# Altium footprint library Seeed-OPL-Connector.PCBLIB: 183 footprints (part 11 of 12)
Each footprint in its own frame and in the unit in brackets; x right, y up, seen from the top. Pads: shape width x height; smd on the part's side, far side on the other; paste and mask are expansions set on the pad; w line width, h text height; cw(c..) or ccw(c..) is an arc to the next point about the centre after c.
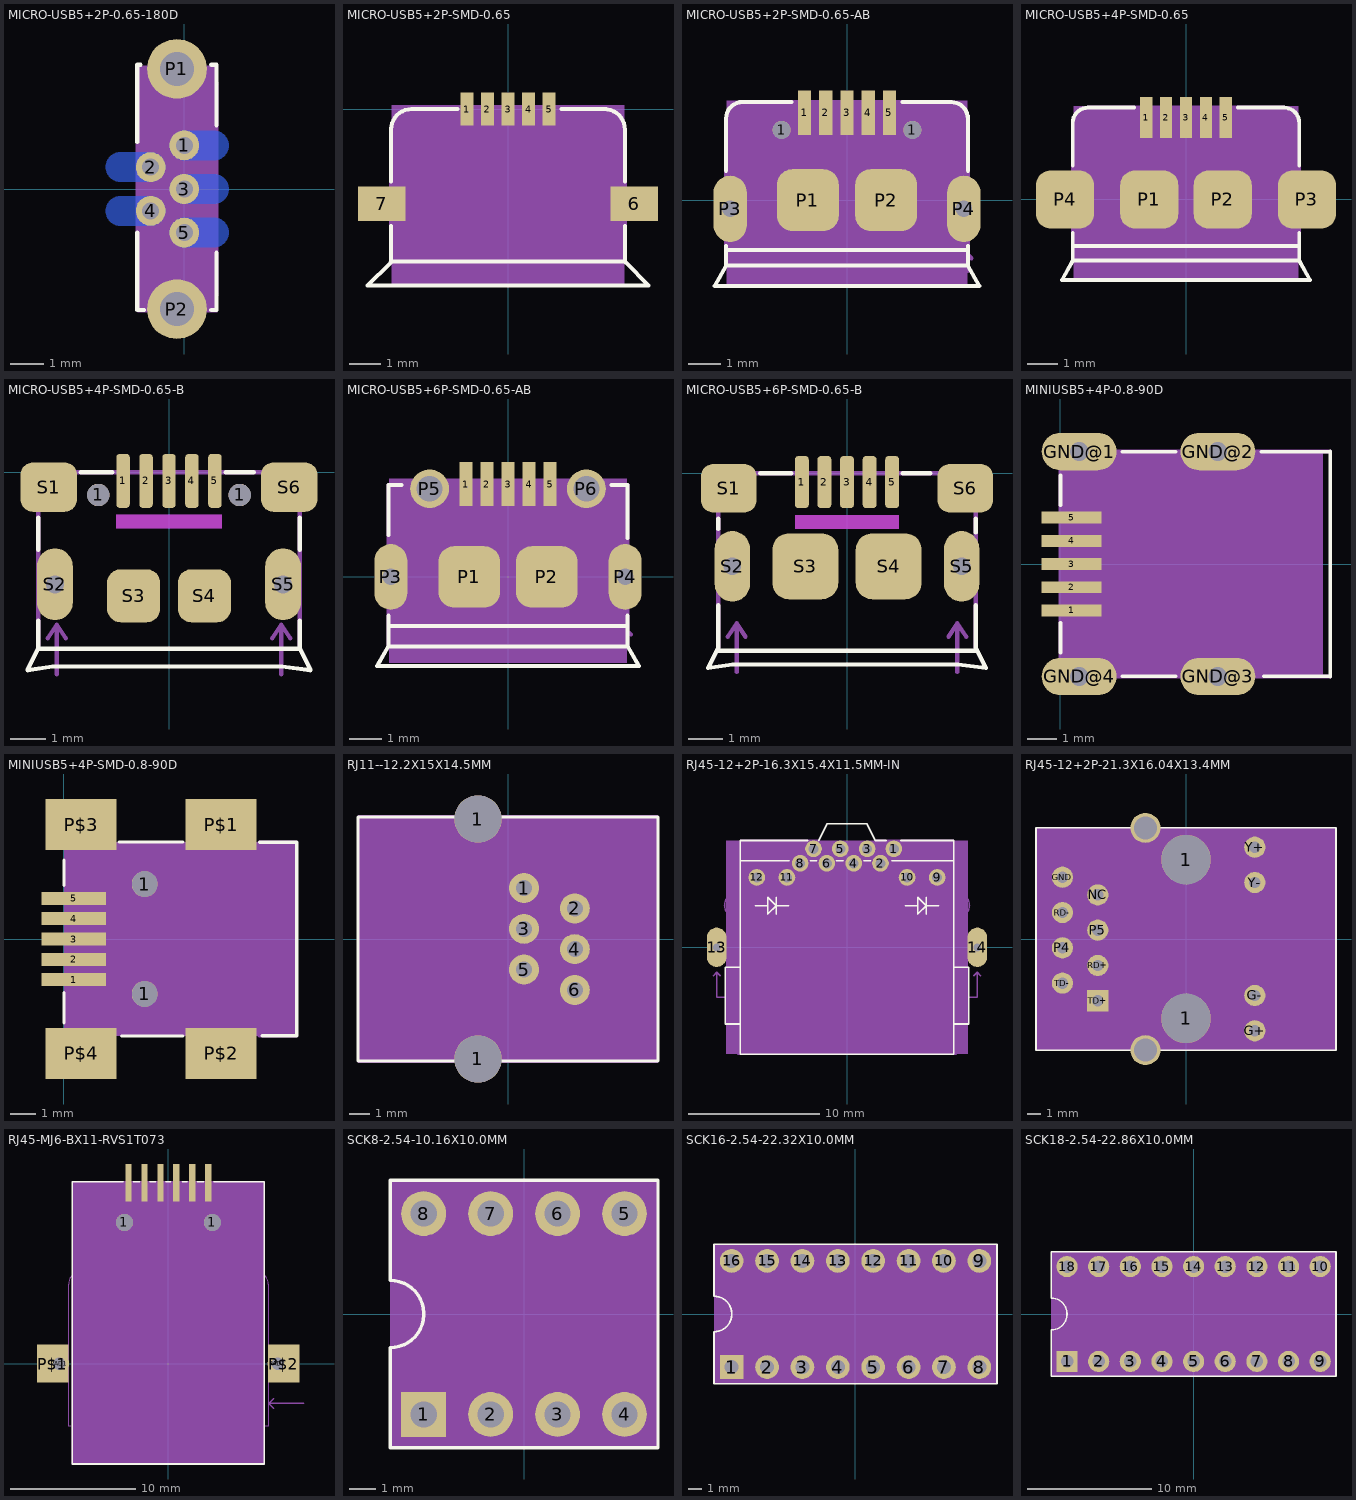
[diagram p10: the footprints below, top view; thin cyan lines are the x and y axes]

## MICRO-USB5+2P-0.65-180D [mil]
pads (7):
  round 35 hole 20: 1(0,51.18) 2(-39.37,25.59) 3(0,0) 4(-39.37,-25.59) 5(0,-51.18)
  round 70 hole 40: P1(-8.66,140.75) P2(-8.66,-140.75)
Bottom Layer:
  lines w35: -75,-25.59 -39.37,-25.59 ; -75,25.59 -39.37,25.59 ; 0,-51.18 35,-51.18 ; 0,0 35,0 ; 0,51.18 35,51.18
Top Overlay:
  lines w5: -55.12,-51.18 -55.12,-141.73 -47.24,-141.73 ; -55.12,55.12 -55.12,145.67 -51.18,145.67 ; 31.5,-141.73 37.8,-141.73 37.8,-122.05 37.8,-118.11 37.8,-74.8 ; 31.5,145.67 37.8,145.67 37.8,74.8
Bottom Paste:
  lines w35: -75,-25.59 -39.37,-25.59 ; -75,25.59 -39.37,25.59 ; 0,-51.18 35,-51.18 ; 0,0 35,0 ; 0,51.18 35,51.18
Bottom Solder:
  lines w43: -75,-25.59 -39.37,-25.59 ; -75,25.59 -39.37,25.59 ; 0,-51.18 35,-51.18 ; 0,0 35,0 ; 0,51.18 35,51.18
Mechanical 16:
  lines w5: -54.92,-119.69 ccw(c-29.92,-119.69) -29.92,-144.69 12.6,-144.69 ccw(c12.6,-119.69) 37.6,-119.69 37.6,119.69 ccw(c12.6,119.69) 12.6,144.69 -29.92,144.69 ccw(c-29.92,119.69) -54.92,119.69 -54.92,-119.69
Mechanical 27:
  rectangle: -54.92,-144.69 39.17,144.69

## MICRO-USB5+2P-SMD-0.65 [mm]
pads (7):
  rect 0.4x1.05 smd: 1(-1.3,0) 2(-0.65,0) 3(0,0) 4(0.65,0) 5(1.3,0)
  rect 1.5x1.1 smd: 6(4,-3) 7(-4,-3)
Top Overlay:
  lines w0.127: -3.708,-4.82 3.696,-4.82 ; -3.702,-4.705 -3.702,-4.839 -3.727,-4.87 -4.445,-5.588 4.445,-5.588 ; -3.7,-4.8 -3.7,-3.7 ; -3.7,-2.3 -3.7,-0.6 ; -3.7,-0.645 cw(c-3.055,-0.645) -3.055,0 ; -3,0 -1.6,0 ; 1.7,0 3.1,0 ; 3.051,0 cw(c3.051,-0.649) 3.7,-0.649 ; 3.7,-4.8 3.7,-3.7 ; 3.7,-2.3 3.7,-0.7 ; 3.702,-4.743 3.702,-4.826 3.727,-4.858 ; 3.734,-4.864 4.451,-5.582
Mechanical 16:
  lines w0.127: -3.7,-4.746 -3.7,-0.645 ; -3.055,0 3.051,0 ; 3.7,-4.746 3.7,-0.649
Mechanical 27:
  rectangle: -3.683,-5.588 3.683,0.127

## MICRO-USB5+2P-SMD-0.65-AB [mm]
pads (11):
  round 0.55 hole 0.55: 1(-2,2.15) 1(2,2.15)
  rect 0.4x1.35 smd: 1(-1.3,2.675) 2(-0.65,2.675) 3(0,2.675) 4(0.65,2.675) 5(1.3,2.675)
  rrect50% 1.9x1.9 smd: P1(-1.2,0) P2(1.2,0)
  oval 1.016x2.032 hole 0.508: P3(-3.575,-0.265) P4(3.575,-0.265)
Top Overlay:
  lines w0.127: -3.7,-1.4 -3.7,-2 ; -3.7,0.9 -3.7,2.5 cw(c-3.2,2.5) -3.2,3 ; -3.683,-1.524 3.683,-1.524 ; -3.3,3 -1.7,3 ; 1.7,3 3.2,3 cw(c3.2,2.5) 3.7,2.5 3.7,0.9 ; 3.7,-1.4 3.7,-2 ; -3.7,-2 -4.05,-2.63 4.05,-2.63 3.7,-2 ; -3.7,-2 3.7,-2
Mechanical 11:
  lines w0.127: -3.683,-1.778 -3.556,-1.651 ; -3.429,-1.778 -3.556,-1.651 ; 3.556,-1.778 3.683,-1.651 ; 3.81,-1.778 3.683,-1.651 ; -3.556,-1.651 -3.556,-2.159 3.683,-2.159 3.683,-1.651
  lines w0.508: -3.575,-0.646 -3.575,0.116 ; 3.575,-0.646 3.575,0.116
  text "slot drills with copper" at -3.556,-2.794 h0.63
Mechanical 16:
  lines w0.127: -3.7,-2 -3.7,2.5 ; -3.2,3 3.2,3 ; 3.7,-2 3.7,2.5
Mechanical 27:
  rectangle: -3.683,-2.667 3.683,3.048

## MICRO-USB5+4P-SMD-0.65 [mm]
pads (9):
  rect 0.4x1.35 smd: 1(-1.3,2.675) 2(-0.65,2.675) 3(0,2.675) 4(0.65,2.675) 5(1.3,2.675)
  rrect50% 1.9x1.9 smd: P1(-1.2,0) P2(1.2,0) P3(3.95,0) P4(-3.95,0)
Top Overlay:
  lines w0.127: -3.7,-1.1 -3.7,-2 ; -3.7,1.1 -3.7,2.5 cw(c-3.2,2.5) -3.2,3 -1.7,3 ; -3.683,-1.524 3.683,-1.524 ; 1.7,3 3.2,3 cw(c3.2,2.5) 3.7,2.5 3.7,1.1 ; 3.7,-1.1 3.7,-2 ; -3.7,-2 -4.05,-2.63 4.05,-2.63 3.7,-2 ; -3.7,-2 3.7,-2
Mechanical 16:
  lines w0.127: -3.7,-2 -3.7,2.5 ; -3.2,3 3.2,3 ; 3.7,-2 3.7,2.5
Mechanical 27:
  rectangle: -3.683,-2.667 3.683,3.048

## MICRO-USB5+4P-SMD-0.65-B [mil]
pads (13):
  round 25 hole 25: 1(-78.74,-25.59) 1(78.74,-25.59)
  rrect50% 15x60 smd: 1(-51.18,-9.84) 2(-25.59,-9.84) 3(0,-9.84) 4(25.59,-9.84) 5(51.18,-9.84)
  rrect50% 62.99x55 smd: S1(-133.86,-16.81) S6(133.86,-16.81)
  oval 40x80 hole 20: S2(-127,-125) S5(127,-125)
  rrect50% 59.06x59.06 smd: S3(-39.37,-137.8) S4(39.37,-137.8)
Top Overlay:
  lines w5: -145.67,-165.35 -145.67,-196.85 ; -145.67,-86.61 -145.67,-51.18 ; -98.43,0 -62.99,0 ; 62.99,0 94.49,0 ; 145.67,-165.35 145.67,-196.85 ; 145.67,-86.61 145.67,-51.18 ; -145.67,-196.85 -157.48,-220.47 -129.92,-216.54 125.98,-216.54 157.48,-220.47 145.67,-196.85 ; -145.67,-196.85 145.67,-196.85
Top Paste:
  region: 0,0 10,0 10,10 0,10
  region: 0,0 10,0 10,10 0,10
Mechanical 8 keep-out:
  rectangle: -59.06,-62.99 59.06,-47.24
Mechanical 11:
  lines w5: -135,-185 -125,-170 ; -125,-225 -125,-170 ; -115,-185 -125,-170 ; 115,-185 125,-170 ; 125,-225 125,-170 ; 135,-185 125,-170
  lines w20: -127,-140 -127,-110 ; 127,-140 127,-110
  text "2 slot drills with copper" at -250,-250 h38.75
Mechanical 16:
  lines w5: -145.67,-196.85 -145.67,0 145.67,0 145.67,-196.85

## MICRO-USB5+6P-SMD-0.65-AB [mm]
pads (11):
  rect 0.4x1.35 smd: 1(-1.3,2.875) 2(-0.65,2.875) 3(0,2.875) 4(0.65,2.875) 5(1.3,2.875)
  rrect50% 1.9x1.9 smd: P1(-1.2,0) P2(1.2,0)
  oval 1.016x2.032 hole 0.508: P3(-3.625,0) P4(3.625,0)
  round 1.2 hole 0.8: P5(-2.425,2.73) P6(2.425,2.73)
Top Overlay:
  lines w0.127: -3.7,-2.1 -3.7,-1.2 ; -3.7,1.3 -3.7,2.85 -3.3,2.85 ; -3.683,-1.524 3.683,-1.524 ; 3.2,2.85 3.7,2.85 3.7,1.2 ; 3.7,-2.1 3.7,-1.2 ; -4.05,-2.75 4.05,-2.75 3.7,-2.15 -3.7,-2.15 -4.05,-2.75
Mechanical 11:
  lines w0.127: -3.683,-1.778 -3.556,-1.651 ; -3.429,-1.778 -3.556,-1.651 ; 3.556,-1.778 3.683,-1.651 ; 3.81,-1.778 3.683,-1.651 ; -3.556,-1.651 -3.556,-2.159 3.683,-2.159 3.683,-1.651
  lines w0.508: -3.625,-0.392 -3.625,0.37 ; 3.625,-0.392 3.625,0.37
  text "slot drills with copper" at -3.556,-2.794 h0.63
Mechanical 16:
  lines w0.127: -3.7,-2.15 -3.7,2.85 3.7,2.85 3.7,-2.15
Mechanical 27:
  rectangle: -3.683,-2.667 3.683,3.048

## MICRO-USB5+6P-SMD-0.65-B [mil]
pads (11):
  rrect50% 15.75x59.06 smd: 1(-51.18,-9.84) 2(-25.59,-9.84) 3(0,-9.84) 4(25.59,-9.84) 5(51.18,-9.84)
  rrect50% 62.99x55.12 smd: S1(-133.86,-16.81) S6(133.86,-16.81)
  oval 40x80 hole 20: S2(-129.92,-105.32) S5(129.92,-105.32)
  rrect50% 74.8x74.8 smd: S3(-47.24,-105.32) S4(47.24,-105.32)
Top Overlay:
  lines w5: -145.67,-200.79 145.67,-200.79 ; -145.67,-149.61 -145.67,-196.85 -157.48,-220.47 -129.92,-216.54 125.98,-216.54 157.48,-220.47 145.67,-196.85 145.67,-149.61 ; -145.67,-62.99 -145.67,-51.18 ; -98.43,0 -62.99,0 ; 62.99,0 94.49,0 ; 145.67,-66.93 145.67,-51.18
Mechanical 8 keep-out:
  rectangle: -59.06,-62.99 59.06,-47.24
Mechanical 11:
  lines w5: -135,-185 -125,-170 ; -125,-225 -125,-170 ; -115,-185 -125,-170 ; 115,-185 125,-170 ; 125,-225 125,-170 ; 135,-185 125,-170
  lines w20: -129.92,-125 -129.92,-95 ; 129.92,-125 129.92,-95
  text "2 slot drills with copper" at -150,-250 h24.8
Mechanical 16:
  lines w5: -145.67,-196.85 -145.67,0 145.67,0 145.67,-196.85

## MINIUSB5+4P-0.8-90D [mil]
pads (9):
  rect 80x16 smd: 1(15,-62) 2(15,-31) 3(15,0) 4(15,31) 5(15,62)
  oval 100x50 hole 25: GND@1(25,150) GND@2(210,150) GND@3(210,-150) GND@4(25,-150)
Top Overlay:
  lines w5: 0,-118.11 0,-78.74 ; 0,78.74 0,118.11 ; 82.68,-149.61 153.54,-149.61 ; 82.68,149.61 153.54,149.61 ; 267.72,149.61 358.27,149.61 ; 271.65,-149.61 358.27,-149.61 ; 360,-150 360,150
Mechanical 11:
  region: 0,0 10,0 10,10 0,10
  region: 0,0 10,0 10,10 0,10
  region: 0,0 10,0 10,10 0,10
  region: 0,0 10,0 10,10 0,10
  lines w5: 62.5,-112.5 125,-25 175,-112.5 ; 62.5,112.5 125,25 175,112.5
  text "4 Slot drills with copper" at 75,-12.5 h38.75
Mechanical 16:
  lines w5: 360,-150 0,-150 0,150 360,150
Mechanical 27:
  rectangle: 0,-150 350,150

## MINIUSB5+4P-SMD-0.8-90D [mil]
pads (11):
  rect 100x20 smd: 1(15,-62.99) 2(15,-31.5) 3(15,0) 4(15,31.5) 5(15,62.99)
  round 40 hole 40: 1(125,-85) 1(125,85)
  rect 110x78.74 smd: P$1(243.11,177.17) P$2(243.11,-177.17) P$3(26.57,177.17) P$4(26.57,-177.17)
Top Overlay:
  lines w5: 0,-129.92 0,-82.68 ; 0,82.68 0,122.05 ; 85.63,150 184.06,150 ; 89.57,-150 184.06,-150 ; 303.15,149.61 360.24,149.61 360.24,-149.61 307.09,-149.61
Mechanical 16:
  lines w5: 302.17,-150 360,-150 360,150 302.17,150
Mechanical 27:
  region: 360,150 0,150 0,-150 360,-150

## RJ11--12.2X15X14.5MM [mil]
pads (8):
  round 92.91 hole 92.91: 1(-59.06,-236.22) 1(-59.06,236.22)
  round 59.06 hole 31.5: 1(31.5,100.39) 2(131.5,60.24) 3(31.5,20.08) 4(131.5,-20.08) 5(31.5,-60.24) 6(131.5,-100.39)
Top Overlay:
  lines w5: -295.28,-240.16 295.28,-240.16 295.28,240.16 -295.28,240.16 -295.28,-240.16
Mechanical 27:
  rectangle: -295.28,-244.09 295.28,244.09

## RJ45-12+2P-16.3X15.4X11.5MM-IN [mil]
pads (14):
  round 50 hole 30: 1(140.55,295.28) 2(100.39,251.97) 3(60.24,295.28) 4(20.08,251.97) 5(-20.08,295.28) 6(-60.24,251.97) 7(-100.39,295.28) 8(-140.55,251.97) 9(270.08,209.45) 10(179.92,209.45) 11(-179.92,209.45) 12(-270.08,209.45)
  oval 59.06x118.12 hole 23.62: 13(-390.55,0) 14(390.55,0)
Top Overlay:
  lines w5: -320,320 -320,-60 ; -318.9,259.84 -173.23,259.84 ; -318.9,320.08 -118.11,320.08 ; -275,125 -237.5,125 ; -212.5,100 -212.5,125 ; -212.5,150 -212.5,125 ; -175,125 -212.5,125 ; -110.24,259.84 -90.55,259.84 ; -85,320 -60,370 60,370 85,320 ; -31.5,259.84 -11.81,259.84 ; 51.18,259.84 70.87,259.84 ; 86.61,320.08 118.11,320.08 ; 133.86,259.84 318.9,259.84 ; 161.42,320.08 318.9,320.08 ; 175,125 212.5,125 ; 237.5,100 237.5,125 ; 237.5,150 237.5,125 ; 275,125 237.5,125 ; 320,320 320,-60 ; -320,-230 -320,-320 320,-320 320,-230 ; -320,-230 -320,-60 ; -320,-230 -365,-230 -365,-60 -320,-60 ; -237.5,125 -237.5,150 -212.5,125 ; -237.5,125 -237.5,100 -212.5,125 ; 212.5,125 212.5,150 237.5,125 ; 212.5,125 212.5,100 237.5,125 ; 320,-230 320,-60 ; 320,-230 365,-230 365,-60 320,-60
Mechanical 1:
  lines w1: -327.95,-320.08 -327.95,86.61 cw(c-327.75,125.78) -366.93,125.98 -366.93,126.08 cw(c-327.65,126.08) -327.65,165.35 327.59,165.35 cw(c327.59,126.01) 366.93,126.01 ; 327.95,-320.08 327.95,85.69 ccw(c327.3,125.33) 366.93,125.98 ; 366.93,125.98 366.93,126.01
Mechanical 11:
  lines w5: -400,-85 -390,-75 ; -380,-85 -390,-75 ; 380,-85 390,-75 ; 400,-85 390,-75 ; -390,-75 -390,-150 390,-150 390,-75
  lines w27.56: -390.55,-35.43 -390.55,35.43 ; 390.55,-35.43 390.55,35.43
  text "Slot Drills with copper" at -300,-200 h49.6
Mechanical 14:
  lines w5: -366.93,125.98 ccw(c-327.56,125.98) -327.56,86.61 -327.56,-320 327.56,-320 327.56,86.61 ccw(c327.56,125.98) 366.93,125.98 ccw(c327.56,125.98) 327.56,165.35 -327.56,165.35 ccw(c-327.56,125.98) -366.93,125.98
Mechanical 16:
  lines w5: -320,260 320,260 ; -320,320 -85,320 ; 85,320 320,320
Mechanical 27:
  rectangle: -363.19,-320 363.19,320

## RJ45-12+2P-21.3X16.04X13.4MM [mil]
pads (16):
  round 140 hole 140: 1(0,-225) 1(0,225)
  round 60 hole 32: G+(195,-260) G-(195,-160) GND(-350,175) NC(-250,125) P4(-350,-25) P5(-250,25) RD+(-250,-75) RD-(-350,75) TD-(-350,-125) Y+(195,260) Y-(195,160)
  round 85 hole 65: SHIELD0(-115,315) SHIELD1(-115,-315)
  rect 60x60 hole 32: TD+(-250,-175)
Top Overlay:
  lines w5: -425,-315 425,-315 425,315 -425,315 -425,-315
Mechanical 27:
  rectangle: -425,-315 425,315

## RJ45-MJ6-BX11-RVS1T073 [mm]
pads (12):
  round 1.35 hole 1.35: 1(-3.5,11.24) 1(3.5,11.24)
  rect 0.5x3 smd: P1(3.175,14.4) P2(1.905,14.4) P3(0.635,14.4) P4(-0.635,14.4) P5(-1.905,14.4) P6(-3.175,14.4)
  rect 2.5x3 smd: P$1(-9.2,0) P$2(9.2,0)
  round 1.6 hole 1: PAD1(-8.7,0) PAD2(8.7,0)
Top Overlay:
  lines w0.127: -3.6,14.5 -7.65,14.5 -7.65,-8 7.65,-8 7.65,14.5 ; -2.8,14.5 -2.3,14.5 ; -1.5,14.5 -1,14.5 ; -0.2,14.5 0.2,14.5 ; 1.1,14.5 1.5,14.5 ; 2.3,14.5 2.8,14.5 ; 3.6,14.5 7.6,14.5
Mechanical 11:
  rectangle: -7.62,-8.001 7.62,6.731
  lines w0.025: -7.95,-5 -7.95,6.335 cw(c-6.95,6.335) -6.95,7.335 6.95,7.335 cw(c6.95,6.335) 7.95,6.335 7.95,-5 -7.95,-5
  lines w0.127: 8.382,-3.556 8.001,-3.175 ; 8.382,-2.794 8.001,-3.175 ; 10.795,-3.175 8.001,-3.175 ; -7.65,-8 7.65,-8 7.65,6.7 -7.65,6.7 -7.65,-8
  text "please slot board along the line'" at 13.335,-8.255 h1.38
Mechanical 16:
  lines w0.127: -7.65,14.5 7.65,14.5
Mechanical 27:
  rectangle: -7.62,-8.001 7.62,14.478

## SCK8-2.54-10.16X10.0MM [mm]
pads (8):
  rect 1.7x1.7 hole 1: 1(-3.81,-3.81)
  round 1.7 hole 1: 2(-1.27,-3.81) 3(1.27,-3.81) 4(3.81,-3.81) 5(3.81,3.81) 6(1.27,3.81) 7(-1.27,3.81) 8(-3.81,3.81)
Top Overlay:
  lines w0.127: -5.08,-5.08 5.08,-5.08 5.08,5.08 -5.08,5.08 -5.08,1.27 cw(c-5.055,0.025) -3.81,0.05 -3.81,-0.05 cw(c-5.055,-0.025) -5.08,-1.27 -5.08,-5.08
Mechanical 27:
  rectangle: -5.08,-5.08 5.08,5.08

## SCK16-2.54-22.32X10.0MM [mm]
pads (16):
  rect 1.7x1.7 hole 1: 1(-8.89,-3.81)
  round 1.7 hole 1: 2(-6.35,-3.81) 3(-3.81,-3.81) 4(-1.27,-3.81) 5(1.27,-3.81) 6(3.81,-3.81) 7(6.35,-3.81) 8(8.89,-3.81) 9(8.89,3.81) 10(6.35,3.81) 11(3.81,3.81) 12(1.27,3.81) 13(-1.27,3.81) 14(-3.81,3.81) 15(-6.35,3.81) 16(-8.89,3.81)
Top Overlay:
  lines w0.127: -10.16,-5 10.16,-5 10.16,5 -10.16,5 -10.16,1.27 cw(c-10.135,0.025) -8.89,0.05 -8.89,-0.05 cw(c-10.135,-0.025) -10.16,-1.27 -10.16,-5
Mechanical 27:
  rectangle: -10.16,-5 10.16,5

## SCK18-2.54-22.86X10.0MM [mm]
pads (18):
  rect 1.7x1.7 hole 1: 1(-10.16,-3.81)
  round 1.7 hole 1: 2(-7.62,-3.81) 3(-5.08,-3.81) 4(-2.54,-3.81) 5(0,-3.81) 6(2.54,-3.81) 7(5.08,-3.81) 8(7.62,-3.81) 9(10.16,-3.81) 10(10.16,3.81) 11(7.62,3.81) 12(5.08,3.81) 13(2.54,3.81) 14(0,3.81) 15(-2.54,3.81) 16(-5.08,3.81) 17(-7.62,3.81) 18(-10.16,3.81)
Top Overlay:
  lines w0.127: -11.43,-5 11.43,-5 11.43,5 -11.43,5 -11.43,1.27 cw(c-11.405,0.025) -10.16,0.05 -10.16,-0.05 cw(c-11.405,-0.025) -11.43,-1.27 -11.43,-5
Mechanical 27:
  rectangle: -11.43,-5 11.43,5